# Altium footprint library PcbLib1.PcbLib: 2 footprints
Each footprint in its own frame and in the unit in brackets; x right, y up, seen from the top. Pads: shape width x height; smd on the part's side, far side on the other; paste and mask are expansions set on the pad; w line width, h text height; cw(c..) or ccw(c..) is an arc to the next point about the centre after c.
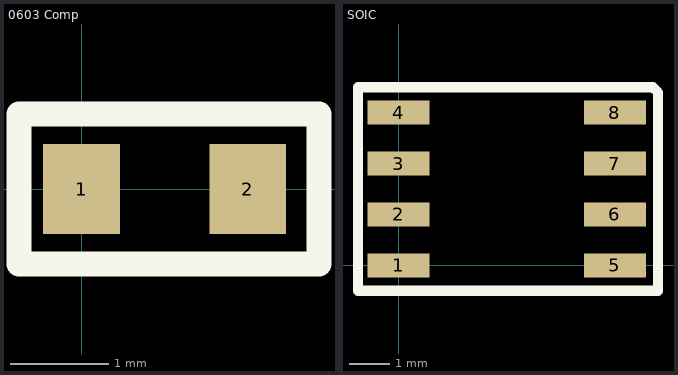
[diagram p0: the footprints below, top view; thin cyan lines are the x and y axes]

## 0603 Comp [mm]
pads (2):
  rect 0.78x0.91 smd: 1(0,0) 2(1.69,0)
Top Overlay:
  lines w0.254: -0.635,-0.762 2.413,-0.762 2.413,0.762 -0.635,0.762 -0.635,-0.762

## SOIC [mm] "PCB del transistor LMH 6609"
height 1
pads (8):
  rect 1.55x0.6 smd: 1(0,0) 2(0,1.27) 3(0,2.54) 4(0,3.81) 5(5.4,0) 6(5.4,1.27) 7(5.4,2.54) 8(5.4,3.81)
Top Overlay:
  lines w0.254: -1.016,-0.635 6.477,-0.635 6.477,4.318 6.35,4.445 -1.016,4.445 -1.016,-0.635